# Altium footprint library Arduino.PcbLib: 3 footprints
Each footprint in its own frame and in the unit in brackets; x right, y up, seen from the top. Pads: shape width x height; smd on the part's side, far side on the other; paste and mask are expansions set on the pad; w line width, h text height; cw(c..) or ccw(c..) is an arc to the next point about the centre after c.
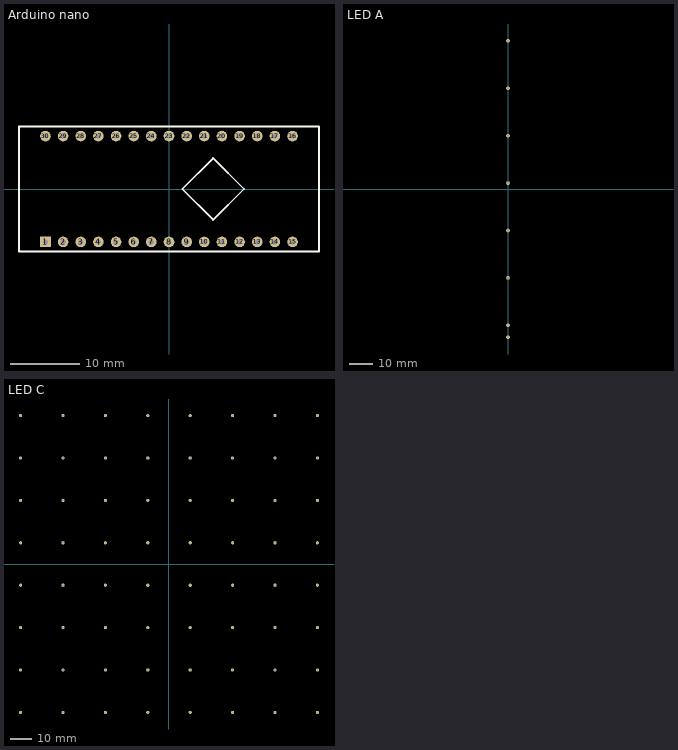
[diagram p0: the footprints below, top view; thin cyan lines are the x and y axes]

## Arduino nano [mil] "arduino nano"
height 1700
pads (30):
  rect 60x60 hole 30: 1(-700,-300)
  round 60 hole 30: 2(-600,-300) 3(-500,-300) 4(-400,-300) 5(-300,-300) 6(-200,-300) 7(-100,-300) 8(0,-300) 9(100,-300) 10(200,-300) 11(300,-300) 12(400,-300) 13(500,-300) 14(600,-300) 15(700,-300) 16(700,300) 17(600,300) 18(500,300) 19(400,300) 20(300,300) 21(200,300) 22(100,300) 23(0,300) 24(-100,300) 25(-200,300) 26(-300,300) 27(-400,300) 28(-500,300) 29(-600,300) 30(-700,300)
Top Overlay:
  lines w10: -850,-354.33 -850,354.33 850,354.33 850,-354.33 -850,-354.33 ; 75,0 250,-175 425,0 250,175 75,0

## LED A [mil] "LED ANODE ARRAY"
pads (8):
  round 60 hole 30: 1(0,2460.63) 2(0,1673.23) 3(0,885.83) 4(0,98.43) 5(0,-688.98) 6(0,-1476.38) 7(0,-2263.78) 8(0,-2460.63)

## LED C [mil] "LED Cathode Array"
pads (64):
  round 60 hole 30: 1(-2755.91,2755.91) 2(-2755.91,1968.5) 3(-2755.91,1181.1) 4(-2755.91,393.7) 5(-2755.91,-393.7) 6(-2755.91,-1181.1) 7(-2755.91,-1968.5) 8(-2755.91,-2755.91) 9(-1968.5,2755.91) 10(-1968.5,1968.5) 11(-1968.5,1181.1) 12(-1968.5,393.7) 13(-1968.5,-393.7) 14(-1968.5,-1181.1) 15(-1968.5,-1968.5) 16(-1968.5,-2755.91) 17(-1181.1,2755.91) 18(-1181.1,1968.5) 19(-1181.1,1181.1) 20(-1181.1,393.7) 21(-1181.1,-393.7) 22(-1181.1,-1181.1) 23(-1181.1,-1968.5) 24(-1181.1,-2755.91) 25(-393.7,2755.91) 26(-393.7,1968.5) 27(-393.7,1181.1) 28(-393.7,393.7) 29(-393.7,-393.7) 30(-393.7,-1181.1) 31(-393.7,-1968.5) 32(-393.7,-2755.91) 33(393.7,2755.91) 34(393.7,1968.5) 35(393.7,1181.1) 36(393.7,393.7) 37(393.7,-393.7) 38(393.7,-1181.1) 39(393.7,-1968.5) 40(393.7,-2755.91) 41(1181.1,2755.91) 42(1181.1,1968.5) 43(1181.1,1181.1) 44(1181.1,393.7) 45(1181.1,-393.7) 46(1181.1,-1181.1) 47(1181.1,-1968.5) 48(1181.1,-2755.91) 49(1968.5,2755.91) 50(1968.5,1968.5) 51(1968.5,1181.1) 52(1968.5,393.7) 53(1968.5,-393.7) 54(1968.5,-1181.1) 55(1968.5,-1968.5) 56(1968.5,-2755.91) 57(2755.91,2755.91) 58(2755.91,1968.5) 59(2755.91,1181.1) 60(2755.91,393.7) 61(2755.91,-393.7) 62(2755.91,-1181.1) 63(2755.91,-1968.5) 64(2755.91,-2755.91)